# EAGLE library part ACCEL-MMA8451 (library domonetic)
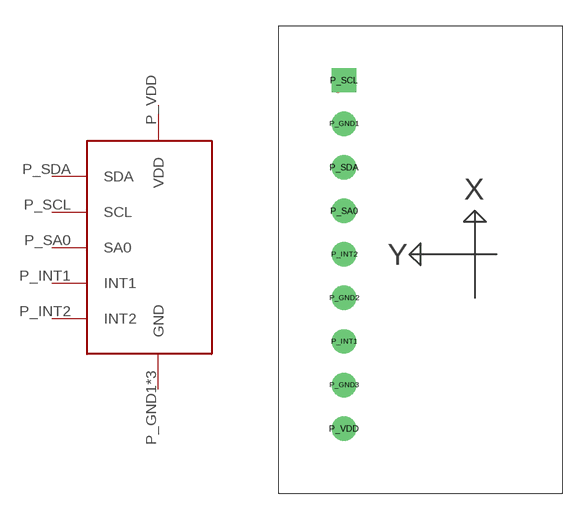
[diagram p15: symbol with the pads of SL9; footprint SL9]

Designator prefix -

## ACCEL-MMA8451  [SL9]
P_GND1  GND
P_GND2  GND
P_GND3  GND
P_INT1  INT1
P_INT2  INT2
P_SA0  SA0
P_SCL  SCL
P_SDA  SDA
P_VDD  VDD

## Footprint SL9 (pad centres in mm)
drill 0.8 pad 1.422: P_GND1 0,-2.54; P_GND2 0,-12.7; P_GND3 0,-17.78; P_INT1 0,-15.24; P_INT2 0,-10.16; P_SA0 0,-7.62; P_SDA 0,-5.08; P_VDD 0,-20.32
drill 0.8 pad 1.422 square: P_SCL 0,0